# Altium integrated library TI_Logic_Flip-Flop,Latch,Register.IntLib: 2598 symbols (part 93 of 122)
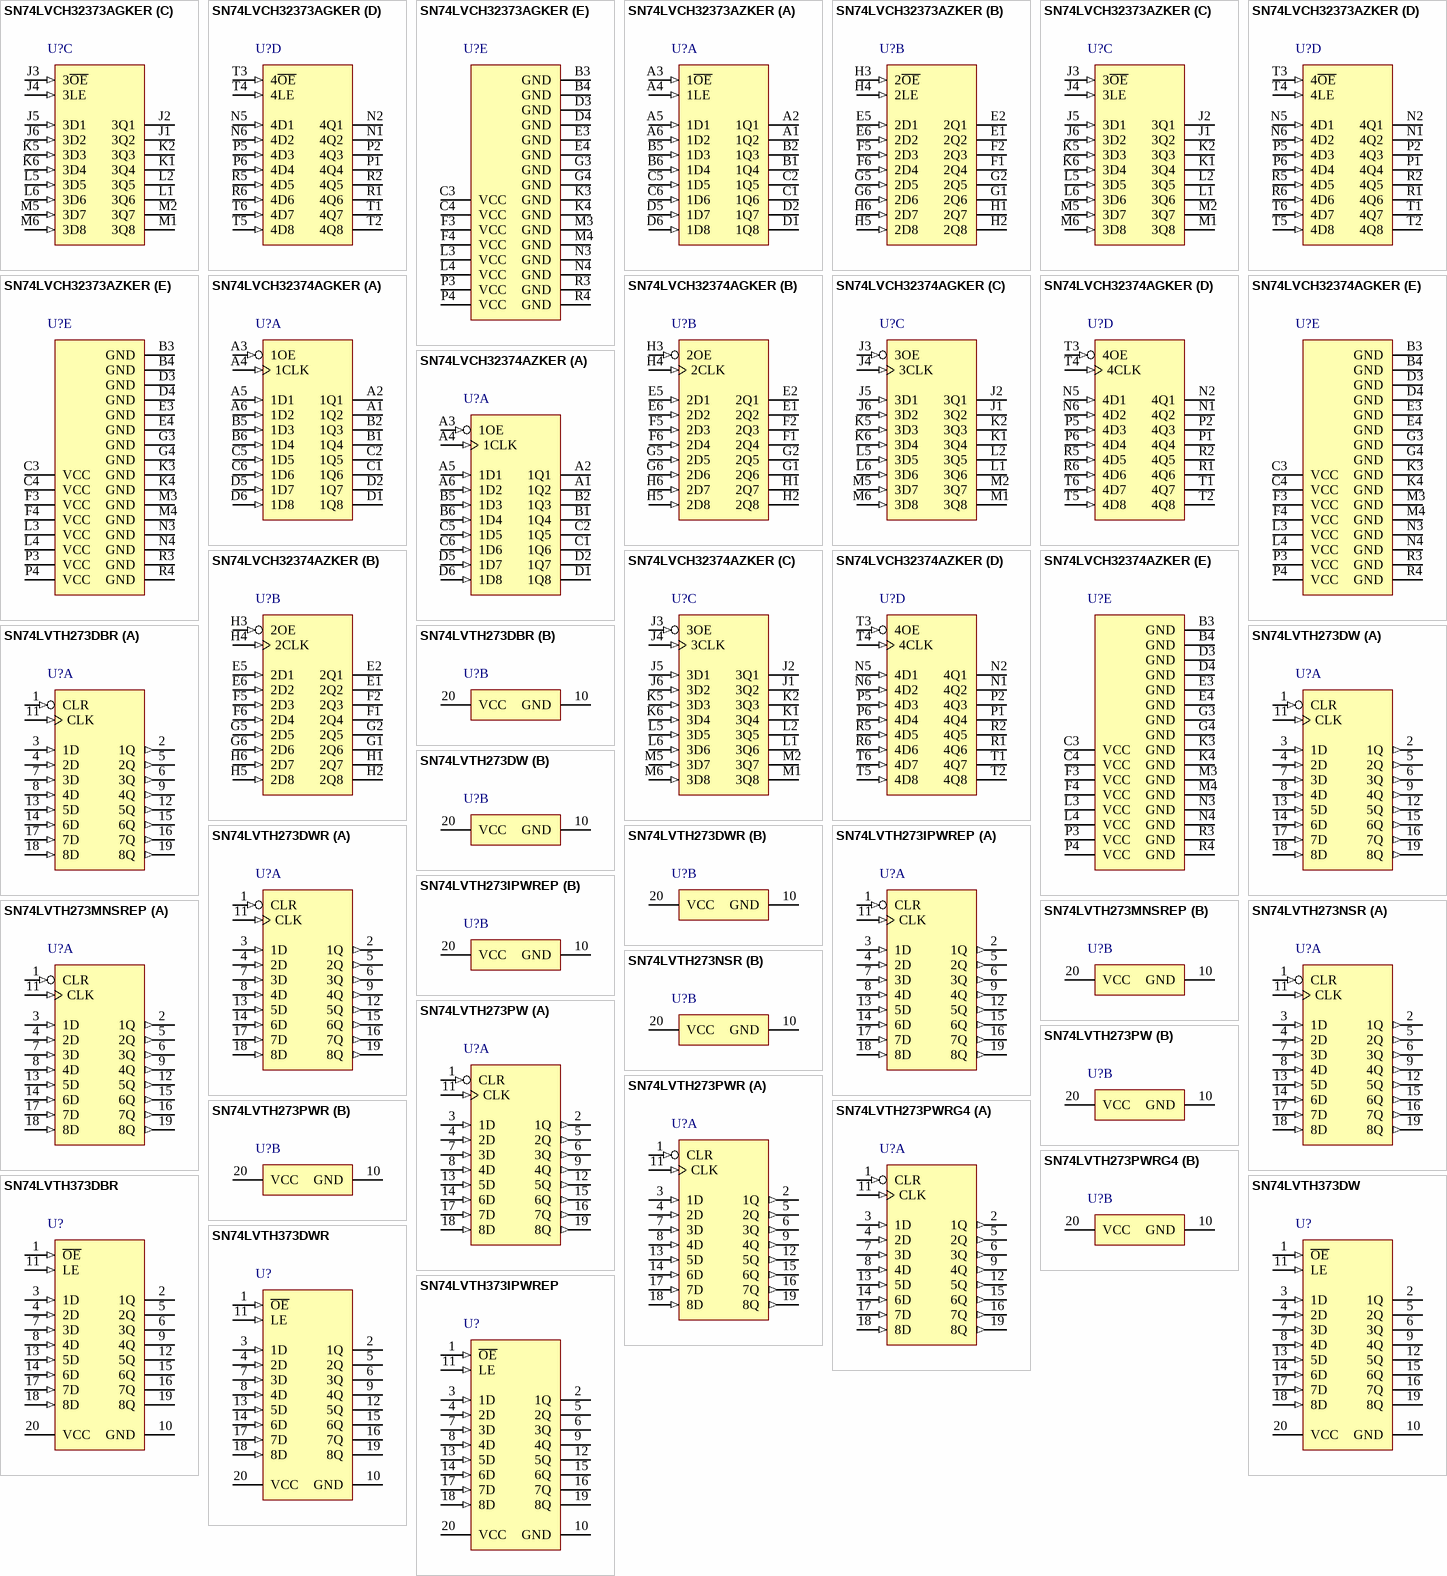
[diagram p231: symbols SN74LVCH32373AGKER to SN74LVTH373IPWREP]

## SN74LVCH32374AZKER
designator U?
32-Bit Edge-Triggered D-Type Flip-Flop With 3-State Outputs, ZKE0096A, LARGE T&R; Generic Part Number: SN74LVCH32374A; Manufacturer: Texas Instruments; PartNumber: SN74LVCH32374AZKER; VCC(Min)(V): 1.65; VCC(Max)(V): 3.6; Output Type: CMOS; ICC @ Nom Voltage(Max)(mA): 0.04; Input Type: TTL,CMOS; Bits(#): 32; F @ Nom Voltage(Max)(Mhz): 100; Rating: Catalog; Technology Family: LVC; Voltage(Nom)(V): 1.8,2.5,2.7,3.3; Schmitt Trigger: No; Output Drive (IOL/IOH)(Max)(mA): 24/-24; Output Logic: Non-inverted; 3-State Output: Yes; tpd @ Nom Voltage(Max)(ns): 4.9,4.5; DatasheetVersion: SCAS619E; PackageReference: ZKE0096A; Supplier 1: Digi-Key; Supplier Part Number 1: SN74LVCH32374AZKER-ND; Supplier 2: Mouser; Supplier Part Number 2: 595-SN74LVCH32374AZK; Operating Temperature Range(C): -40 to 85; Code_JEDEC: MO-205; ComponentLink1Description: Manufacturer URL; ComponentLink1URL: http://www.ti.com/; ComponentLink2Description: Datasheet; ComponentLink2URL: http://www.ti.com/lit/ds/symlink/sn74lvch32374a.pdf; ComponentLink3Description: Package Specification; ComponentLink3URL: http://www.ti.com/lit/ml/mpbg298b/mpbg298b.pdf
footprint ZKE0096A (BGA, 96-Balls, Body 13.5x5.5mm, Pitch 0.8mm)
part A pins: A1 1Q2 (hiz), A2 1Q1 (hiz), A3 1OE (in), A4 1CLK (in), A5 1D1 (in), A6 1D2 (in), B1 1Q4 (hiz), B2 1Q3 (hiz), B5 1D3 (in), B6 1D4 (in), C1 1Q6 (hiz), C2 1Q5 (hiz), C5 1D5 (in), C6 1D6 (in), D1 1Q8 (hiz), D2 1Q7 (hiz), D5 1D7 (in), D6 1D8 (in)
part B pins: E1 2Q2 (hiz), E2 2Q1 (hiz), E5 2D1 (in), E6 2D2 (in), F1 2Q4 (hiz), F2 2Q3 (hiz), F5 2D3 (in), F6 2D4 (in), G1 2Q6 (hiz), G2 2Q5 (hiz), G5 2D5 (in), G6 2D6 (in), H1 2Q7 (hiz), H2 2Q8 (hiz), H3 2OE (in), H4 2CLK (in), H5 2D8 (in), H6 2D7 (in)
part C pins: J1 3Q2 (hiz), J2 3Q1 (hiz), J3 3OE (in), J4 3CLK (in), J5 3D1 (in), J6 3D2 (in), K1 3Q4 (hiz), K2 3Q3 (hiz), K5 3D3 (in), K6 3D4 (in), L1 3Q6 (hiz), L2 3Q5 (hiz), L5 3D5 (in), L6 3D6 (in), M1 3Q8 (hiz), M2 3Q7 (hiz), M5 3D7 (in), M6 3D8 (in)
part D pins: N1 4Q2 (hiz), N2 4Q1 (hiz), N5 4D1 (in), N6 4D2 (in), P1 4Q4 (hiz), P2 4Q3 (hiz), P5 4D3 (in), P6 4D4 (in), R1 4Q6 (hiz), R2 4Q5 (hiz), R5 4D5 (in), R6 4D6 (in), T1 4Q7 (hiz), T2 4Q8 (hiz), T3 4OE (in), T4 4CLK (in), T5 4D8 (in), T6 4D7 (in)
part E pins: B3 GND (power), B4 GND (power), C3 VCC (power), C4 VCC (power), D3 GND (power), D4 GND (power), E3 GND (power), E4 GND (power), F3 VCC (power), F4 VCC (power), G3 GND (power), G4 GND (power), K3 GND (power), K4 GND (power), L3 VCC (power), L4 VCC (power), M3 GND (power), M4 GND (power), N3 GND (power), N4 GND (power), P3 VCC (power), P4 VCC (power), R3 GND (power), R4 GND (power)

## SN74LVTH273DBR
designator U?
3.3-V ABT Octal D-Type Flip-Flops With Clear, DB0020A, LARGE T&R; Generic Part Number: SN74LVTH273; Manufacturer: Texas Instruments; PartNumber: SN74LVTH273DBR; VCC(Min)(V): 2.7; VCC(Max)(V): 3.6; Output Type: TTL; ICC @ Nom Voltage(Max)(mA): 5; Bits(#): 8; F @ Nom Voltage(Max)(Mhz): 160; Rating: Catalog; Technology Family: LVT; Voltage(Nom)(V): 3.3; Schmitt Trigger: No; Output Drive (IOL/IOH)(Max)(mA): 64/-32; Output Logic: Non-inverted; tpd @ Nom Voltage(Max)(ns): 4.9; DatasheetVersion: SCBS136M; PackageReference: DB0020A; Supplier 1: Digi-Key; Supplier Part Number 1: 296-8712-2-ND; Supplier 2: Digi-Key; Supplier Part Number 2: 296-8712-1-ND; Supplier 3: Digi-Key; Supplier Part Number 3: 296-8712-6-ND; Supplier 4: Mouser; Supplier Part Number 4: 595-SN74LVTH273DBR; Input Type: TTL; Operating Temperature Range(C): -40 to 85; 3-State Output: No; Code_JEDEC: MO-150; ComponentLink1Description: Manufacturer URL; ComponentLink1URL: http://www.ti.com/; ComponentLink2Description: Datasheet; ComponentLink2URL: http://www.ti.com/lit/ds/symlink/sn74lvth273.pdf; ComponentLink3Description: Package Specification; ComponentLink3URL: http://www.ti.com/lit/ml/mpds508/mpds508.pdf
footprint DB0020A_N (SOP, 20-Leads, Body 5.6x7.5mm, Pitch 0.65mm, IPC Medium Density)
footprint DB0020A_M (SOP, 20-Leads, Body 5.6x7.5mm, Pitch 0.65mm, IPC Low Density)
footprint DB0020A_L (SOP, 20-Leads, Body 5.6x7.5mm, Pitch 0.65mm, IPC High Density)
part A pins: 1 CLR (in) "Clear Pin", 2 1Q (out) "1Q Output", 3 1D (in) "1D Input", 4 2D (in) "2D Input", 5 2Q (out) "2Q Output", 6 3Q (out) "3Q Output", 7 3D (in) "3D Input", 8 4D (in) "4D Input", 9 4Q (out) "4Q Output", 11 CLK (in) "Clock Pin", 12 5Q (out) "5Q Output", 13 5D (in) "5D Input", 14 6D (in) "6D Input", 15 6Q (out) "6Q Output", 16 7Q (out) "7Q Output", 17 7D (in) "7D Input", 18 8D (in) "8D Input", 19 8Q (out) "8Q Output"
part B pins: 10 GND (power) "Ground Pin", 20 VCC (power) "Power Pin"

## SN74LVTH273DW
designator U?
3.3-V ABT Octal D-Type Flip-Flops With Clear, DW0020A, TUBE; Generic Part Number: SN74LVTH273; Manufacturer: Texas Instruments; PartNumber: SN74LVTH273DW; VCC(Min)(V): 2.7; VCC(Max)(V): 3.6; Output Type: TTL; ICC @ Nom Voltage(Max)(mA): 5; Bits(#): 8; F @ Nom Voltage(Max)(Mhz): 160; Rating: Catalog; Technology Family: LVT; Voltage(Nom)(V): 3.3; Schmitt Trigger: No; Output Drive (IOL/IOH)(Max)(mA): 64/-32; Output Logic: Non-inverted; tpd @ Nom Voltage(Max)(ns): 4.9; DatasheetVersion: SCBS136M; PackageReference: DW0020A; Supplier 1: Digi-Key; Supplier Part Number 1: 296-8713-5-ND; Supplier 2: Farnell; Supplier Part Number 2: 1739895; Supplier 3: Newark; Supplier Part Number 3: 50R6671; Supplier 4: Mouser; Supplier Part Number 4: 595-SN74LVTH273DW; Input Type: TTL; Operating Temperature Range(C): -40 to 85; 3-State Output: No; Code_JEDEC: MS-013; ComponentLink1Description: Manufacturer URL; ComponentLink1URL: http://www.ti.com/; ComponentLink2Description: Datasheet; ComponentLink2URL: http://www.ti.com/lit/ds/symlink/sn74lvth273.pdf; ComponentLink3Description: Package Specification; ComponentLink3URL: http://www.ti.com/lit/ml/mpds173a/mpds173a.pdf
footprint DW0020A_N (SOIC, 20-Leads, Body 13x7.6mm, Pitch 1.27mm, IPC Medium Density)
footprint DW0020A_M (SOIC, 20-Leads, Body 13x7.6mm, Pitch 1.27mm, IPC Low Density)
footprint DW0020A_L (SOIC, 20-Leads, Body 13x7.6mm, Pitch 1.27mm, IPC High Density)
part A pins: 1 CLR (in) "Clear Pin", 2 1Q (out) "1Q Output", 3 1D (in) "1D Input", 4 2D (in) "2D Input", 5 2Q (out) "2Q Output", 6 3Q (out) "3Q Output", 7 3D (in) "3D Input", 8 4D (in) "4D Input", 9 4Q (out) "4Q Output", 11 CLK (in) "Clock Pin", 12 5Q (out) "5Q Output", 13 5D (in) "5D Input", 14 6D (in) "6D Input", 15 6Q (out) "6Q Output", 16 7Q (out) "7Q Output", 17 7D (in) "7D Input", 18 8D (in) "8D Input", 19 8Q (out) "8Q Output"
part B pins: 10 GND (power) "Ground Pin", 20 VCC (power) "Power Pin"

## SN74LVTH273DWR
designator U?
3.3-V ABT Octal D-Type Flip-Flops With Clear, DW0020A, LARGE T&R; Generic Part Number: SN74LVTH273; Manufacturer: Texas Instruments; PartNumber: SN74LVTH273DWR; VCC(Min)(V): 2.7; VCC(Max)(V): 3.6; Output Type: TTL; ICC @ Nom Voltage(Max)(mA): 5; Bits(#): 8; F @ Nom Voltage(Max)(Mhz): 160; Rating: Catalog; Technology Family: LVT; Voltage(Nom)(V): 3.3; Schmitt Trigger: No; Output Drive (IOL/IOH)(Max)(mA): 64/-32; Output Logic: Non-inverted; tpd @ Nom Voltage(Max)(ns): 4.9; DatasheetVersion: SCBS136M; PackageReference: DW0020A; Supplier 1: Digi-Key; Supplier Part Number 1: 296-14934-2-ND; Supplier 2: Digi-Key; Supplier Part Number 2: 296-14934-1-ND; Supplier 3: Digi-Key; Supplier Part Number 3: 296-14934-6-ND; Supplier 4: Newark; Supplier Part Number 4: 76C4480; Supplier 5: Mouser; Supplier Part Number 5: 595-SN74LVTH273DWR; Input Type: TTL; Operating Temperature Range(C): -40 to 85; 3-State Output: No; Code_JEDEC: MS-013; ComponentLink1Description: Manufacturer URL; ComponentLink1URL: http://www.ti.com/; ComponentLink2Description: Datasheet; ComponentLink2URL: http://www.ti.com/lit/ds/symlink/sn74lvth273.pdf; ComponentLink3Description: Package Specification; ComponentLink3URL: http://www.ti.com/lit/ml/mpds173a/mpds173a.pdf
footprint DW0020A_N (SOIC, 20-Leads, Body 13x7.6mm, Pitch 1.27mm, IPC Medium Density)
footprint DW0020A_M (SOIC, 20-Leads, Body 13x7.6mm, Pitch 1.27mm, IPC Low Density)
footprint DW0020A_L (SOIC, 20-Leads, Body 13x7.6mm, Pitch 1.27mm, IPC High Density)
part A pins: 1 CLR (in) "Clear Pin", 2 1Q (out) "1Q Output", 3 1D (in) "1D Input", 4 2D (in) "2D Input", 5 2Q (out) "2Q Output", 6 3Q (out) "3Q Output", 7 3D (in) "3D Input", 8 4D (in) "4D Input", 9 4Q (out) "4Q Output", 11 CLK (in) "Clock Pin", 12 5Q (out) "5Q Output", 13 5D (in) "5D Input", 14 6D (in) "6D Input", 15 6Q (out) "6Q Output", 16 7Q (out) "7Q Output", 17 7D (in) "7D Input", 18 8D (in) "8D Input", 19 8Q (out) "8Q Output"
part B pins: 10 GND (power) "Ground Pin", 20 VCC (power) "Power Pin"

## SN74LVTH273IPWREP
designator U?
Enhanced Product 3.3-V Abt Octal D-Type Flip-Flops With Clear, PW0020A, LARGE T&R; Generic Part Number: SN74LVTH273-EP; Manufacturer: Texas Instruments; PartNumber: SN74LVTH273IPWREP; VCC(Min)(V): 2.7; VCC(Max)(V): 3.6; Output Type: TTL; ICC @ Nom Voltage(Max)(mA): 5; Bits(#): 8; F @ Nom Voltage(Max)(Mhz): 160; Rating: HiRel Enhanced Product; Technology Family: LVT; Voltage(Nom)(V): 3.3; Schmitt Trigger: No; Output Drive (IOL/IOH)(Max)(mA): 64/-32; Output Logic: Non-inverted; tpd @ Nom Voltage(Max)(ns): 4.9; DatasheetVersion: SCBS769A; PackageReference: PW0020A; Supplier 1: Digi-Key; Supplier Part Number 1: 296-22392-2-ND; Supplier 2: Digi-Key; Supplier Part Number 2: 296-22392-1-ND; Supplier 3: Digi-Key; Supplier Part Number 3: 296-22392-6-ND; Supplier 4: Mouser; Supplier Part Number 4: 595-N74LVTH273IPWREP; Input Type: TTL; Operating Temperature Range(C): -40 to 85,-55 to 125; 3-State Output: No; Code_JEDEC: MO-153; ComponentLink1Description: Manufacturer URL; ComponentLink1URL: http://www.ti.com/; ComponentLink2Description: Datasheet; ComponentLink2URL: http://www.ti.com/lit/ds/symlink/sn74lvth273-ep.pdf; ComponentLink3Description: Package Specification; ComponentLink3URL: http://www.ti.com/lit/ml/mpds362/mpds362.pdf
footprint PW0020A_N (SOP, 20-Leads, Body 6.6x4.5mm, Pitch 0.65mm, IPC Medium Density)
footprint PW0020A_M (SOP, 20-Leads, Body 6.6x4.5mm, Pitch 0.65mm, IPC Low Density)
footprint PW0020A_L (SOP, 20-Leads, Body 6.6x4.5mm, Pitch 0.65mm, IPC High Density)
part A pins: 1 CLR (in) "Clear Pin", 2 1Q (out) "1Q Output", 3 1D (in) "1D Input", 4 2D (in) "2D Input", 5 2Q (out) "2Q Output", 6 3Q (out) "3Q Output", 7 3D (in) "3D Input", 8 4D (in) "4D Input", 9 4Q (out) "4Q Output", 11 CLK (in) "Clock Pin", 12 5Q (out) "5Q Output", 13 5D (in) "5D Input", 14 6D (in) "6D Input", 15 6Q (out) "6Q Output", 16 7Q (out) "7Q Output", 17 7D (in) "7D Input", 18 8D (in) "8D Input", 19 8Q (out) "8Q Output"
part B pins: 10 GND (power) "Ground Pin", 20 VCC (power) "Power Pin"

## SN74LVTH273MNSREP
designator U?
Enhanced Product 3.3-V Abt Octal D-Type Flip-Flops With Clear, NS0020A, LARGE T&R; Generic Part Number: SN74LVTH273-EP; Manufacturer: Texas Instruments; PartNumber: SN74LVTH273MNSREP; VCC(Min)(V): 2.7; VCC(Max)(V): 3.6; Output Type: TTL; ICC @ Nom Voltage(Max)(mA): 5; Bits(#): 8; F @ Nom Voltage(Max)(Mhz): 160; Rating: HiRel Enhanced Product; Technology Family: LVT; Voltage(Nom)(V): 3.3; Schmitt Trigger: No; Output Drive (IOL/IOH)(Max)(mA): 64/-32; Output Logic: Non-inverted; tpd @ Nom Voltage(Max)(ns): 4.9; DatasheetVersion: SCBS769A; PackageReference: NS0020A; Supplier 1: Digi-Key; Supplier Part Number 1: 296-22393-2-ND; Supplier 2: Digi-Key; Supplier Part Number 2: 296-22393-1-ND; Supplier 3: Digi-Key; Supplier Part Number 3: 296-22393-6-ND; Supplier 4: Mouser; Supplier Part Number 4: 595-N74LVTH273MNSREP; Input Type: TTL; Operating Temperature Range(C): -40 to 85,-55 to 125; 3-State Output: No; ComponentLink1Description: Manufacturer URL; ComponentLink1URL: http://www.ti.com/; ComponentLink2Description: Datasheet; ComponentLink2URL: http://www.ti.com/lit/ds/symlink/sn74lvth273-ep.pdf; ComponentLink3Description: Package Specification; ComponentLink3URL: http://www.ti.com/lit/ml/msop002a/msop002a.pdf
footprint NS0020A_N (SOIC,20-Leads,Body 12.9x5.6mm,Pitch 1.27mm,IPC Medium Density)
footprint NS0020A_M (SOIC,20-Leads,Body 12.9x5.6mm,Pitch 1.27mm,IPC Low Density)
footprint NS0020A_L (SOIC,20-Leads,Body 12.9x5.6mm,Pitch 1.27mm,IPC High Density)
part A pins: 1 CLR (in) "Clear Pin", 2 1Q (out) "1Q Output", 3 1D (in) "1D Input", 4 2D (in) "2D Input", 5 2Q (out) "2Q Output", 6 3Q (out) "3Q Output", 7 3D (in) "3D Input", 8 4D (in) "4D Input", 9 4Q (out) "4Q Output", 11 CLK (in) "Clock Pin", 12 5Q (out) "5Q Output", 13 5D (in) "5D Input", 14 6D (in) "6D Input", 15 6Q (out) "6Q Output", 16 7Q (out) "7Q Output", 17 7D (in) "7D Input", 18 8D (in) "8D Input", 19 8Q (out) "8Q Output"
part B pins: 10 GND (power) "Ground Pin", 20 VCC (power) "Power Pin"

## SN74LVTH273NSR
designator U?
3.3-V ABT Octal D-Type Flip-Flops With Clear, NS0020A, LARGE T&R; Generic Part Number: SN74LVTH273; Manufacturer: Texas Instruments; PartNumber: SN74LVTH273NSR; VCC(Min)(V): 2.7; VCC(Max)(V): 3.6; Output Type: TTL; ICC @ Nom Voltage(Max)(mA): 5; Bits(#): 8; F @ Nom Voltage(Max)(Mhz): 160; Rating: Catalog; Technology Family: LVT; Voltage(Nom)(V): 3.3; Schmitt Trigger: No; Output Drive (IOL/IOH)(Max)(mA): 64/-32; Output Logic: Non-inverted; tpd @ Nom Voltage(Max)(ns): 4.9; DatasheetVersion: SCBS136M; PackageReference: NS0020A; Supplier 1: Digi-Key; Supplier Part Number 1: 296-28730-2-ND; Supplier 2: Digi-Key; Supplier Part Number 2: 296-28730-1-ND; Supplier 3: Digi-Key; Supplier Part Number 3: 296-28730-6-ND; Supplier 4: Farnell; Supplier Part Number 4: 1236459; Supplier 5: Mouser; Supplier Part Number 5: 595-SN74LVTH273NSR; Input Type: TTL; Operating Temperature Range(C): -40 to 85; 3-State Output: No; ComponentLink1Description: Manufacturer URL; ComponentLink1URL: http://www.ti.com/; ComponentLink2Description: Datasheet; ComponentLink2URL: http://www.ti.com/lit/ds/symlink/sn74lvth273.pdf; ComponentLink3Description: Package Specification; ComponentLink3URL: http://www.ti.com/lit/ml/msop002a/msop002a.pdf
footprint NS0020A_N (SOIC,20-Leads,Body 12.9x5.6mm,Pitch 1.27mm,IPC Medium Density)
footprint NS0020A_M (SOIC,20-Leads,Body 12.9x5.6mm,Pitch 1.27mm,IPC Low Density)
footprint NS0020A_L (SOIC,20-Leads,Body 12.9x5.6mm,Pitch 1.27mm,IPC High Density)
part A pins: 1 CLR (in) "Clear Pin", 2 1Q (out) "1Q Output", 3 1D (in) "1D Input", 4 2D (in) "2D Input", 5 2Q (out) "2Q Output", 6 3Q (out) "3Q Output", 7 3D (in) "3D Input", 8 4D (in) "4D Input", 9 4Q (out) "4Q Output", 11 CLK (in) "Clock Pin", 12 5Q (out) "5Q Output", 13 5D (in) "5D Input", 14 6D (in) "6D Input", 15 6Q (out) "6Q Output", 16 7Q (out) "7Q Output", 17 7D (in) "7D Input", 18 8D (in) "8D Input", 19 8Q (out) "8Q Output"
part B pins: 10 GND (power) "Ground Pin", 20 VCC (power) "Power Pin"

## SN74LVTH273PW
designator U?
3.3-V ABT Octal D-Type Flip-Flops With Clear, PW0020A, TUBE; Generic Part Number: SN74LVTH273; Manufacturer: Texas Instruments; PartNumber: SN74LVTH273PW; VCC(Min)(V): 2.7; VCC(Max)(V): 3.6; Output Type: TTL; ICC @ Nom Voltage(Max)(mA): 5; Bits(#): 8; F @ Nom Voltage(Max)(Mhz): 160; Rating: Catalog; Technology Family: LVT; Voltage(Nom)(V): 3.3; Schmitt Trigger: No; Output Drive (IOL/IOH)(Max)(mA): 64/-32; Output Logic: Non-inverted; tpd @ Nom Voltage(Max)(ns): 4.9; DatasheetVersion: SCBS136M; PackageReference: PW0020A; Supplier 1: Digi-Key; Supplier Part Number 1: 296-34093-5-ND; Supplier 2: Farnell; Supplier Part Number 2: 1741131; Supplier 3: Newark; Supplier Part Number 3: 32H6441; Supplier 4: Mouser; Supplier Part Number 4: 595-SN74LVTH273PW; Input Type: TTL; Operating Temperature Range(C): -40 to 85; 3-State Output: No; Code_JEDEC: MO-153; ComponentLink1Description: Manufacturer URL; ComponentLink1URL: http://www.ti.com/; ComponentLink2Description: Datasheet; ComponentLink2URL: http://www.ti.com/lit/ds/symlink/sn74lvth273.pdf; ComponentLink3Description: Package Specification; ComponentLink3URL: http://www.ti.com/lit/ml/mpds362/mpds362.pdf
footprint PW0020A_N (SOP, 20-Leads, Body 6.6x4.5mm, Pitch 0.65mm, IPC Medium Density)
footprint PW0020A_M (SOP, 20-Leads, Body 6.6x4.5mm, Pitch 0.65mm, IPC Low Density)
footprint PW0020A_L (SOP, 20-Leads, Body 6.6x4.5mm, Pitch 0.65mm, IPC High Density)
part A pins: 1 CLR (in) "Clear Pin", 2 1Q (out) "1Q Output", 3 1D (in) "1D Input", 4 2D (in) "2D Input", 5 2Q (out) "2Q Output", 6 3Q (out) "3Q Output", 7 3D (in) "3D Input", 8 4D (in) "4D Input", 9 4Q (out) "4Q Output", 11 CLK (in) "Clock Pin", 12 5Q (out) "5Q Output", 13 5D (in) "5D Input", 14 6D (in) "6D Input", 15 6Q (out) "6Q Output", 16 7Q (out) "7Q Output", 17 7D (in) "7D Input", 18 8D (in) "8D Input", 19 8Q (out) "8Q Output"
part B pins: 10 GND (power) "Ground Pin", 20 VCC (power) "Power Pin"

## SN74LVTH273PWR
designator U?
3.3-V ABT Octal D-Type Flip-Flops With Clear, PW0020A, LARGE T&R; Generic Part Number: SN74LVTH273; Manufacturer: Texas Instruments; PartNumber: SN74LVTH273PWR; VCC(Min)(V): 2.7; VCC(Max)(V): 3.6; Output Type: TTL; ICC @ Nom Voltage(Max)(mA): 5; Bits(#): 8; F @ Nom Voltage(Max)(Mhz): 160; Rating: Catalog; Technology Family: LVT; Voltage(Nom)(V): 3.3; Schmitt Trigger: No; Output Drive (IOL/IOH)(Max)(mA): 64/-32; Output Logic: Non-inverted; tpd @ Nom Voltage(Max)(ns): 4.9; DatasheetVersion: SCBS136M; PackageReference: PW0020A; Supplier 1: Digi-Key; Supplier Part Number 1: 296-1273-2-ND; Supplier 2: Digi-Key; Supplier Part Number 2: 296-1273-1-ND; Supplier 3: Digi-Key; Supplier Part Number 3: 296-1273-6-ND; Supplier 4: Newark; Supplier Part Number 4: 35C2074; Supplier 5: Mouser; Supplier Part Number 5: 595-SN74LVTH273PWR; Input Type: TTL; Operating Temperature Range(C): -40 to 85; 3-State Output: No; Code_JEDEC: MO-153; ComponentLink1Description: Manufacturer URL; ComponentLink1URL: http://www.ti.com/; ComponentLink2Description: Datasheet; ComponentLink2URL: http://www.ti.com/lit/ds/symlink/sn74lvth273.pdf; ComponentLink3Description: Package Specification; ComponentLink3URL: http://www.ti.com/lit/ml/mpds362/mpds362.pdf
footprint PW0020A_N (SOP, 20-Leads, Body 6.6x4.5mm, Pitch 0.65mm, IPC Medium Density)
footprint PW0020A_M (SOP, 20-Leads, Body 6.6x4.5mm, Pitch 0.65mm, IPC Low Density)
footprint PW0020A_L (SOP, 20-Leads, Body 6.6x4.5mm, Pitch 0.65mm, IPC High Density)
part A pins: 1 CLR (in) "Clear Pin", 2 1Q (out) "1Q Output", 3 1D (in) "1D Input", 4 2D (in) "2D Input", 5 2Q (out) "2Q Output", 6 3Q (out) "3Q Output", 7 3D (in) "3D Input", 8 4D (in) "4D Input", 9 4Q (out) "4Q Output", 11 CLK (in) "Clock Pin", 12 5Q (out) "5Q Output", 13 5D (in) "5D Input", 14 6D (in) "6D Input", 15 6Q (out) "6Q Output", 16 7Q (out) "7Q Output", 17 7D (in) "7D Input", 18 8D (in) "8D Input", 19 8Q (out) "8Q Output"
part B pins: 10 GND (power) "Ground Pin", 20 VCC (power) "Power Pin"

## SN74LVTH273PWRG4
designator U?
3.3-V ABT Octal D-Type Flip-Flops With Clear, PW0020A, LARGE T&R; Generic Part Number: SN74LVTH273; Manufacturer: Texas Instruments; PartNumber: SN74LVTH273PWRG4; VCC(Min)(V): 2.7; VCC(Max)(V): 3.6; Output Type: TTL; ICC @ Nom Voltage(Max)(mA): 5; Bits(#): 8; F @ Nom Voltage(Max)(Mhz): 160; Rating: Catalog; Technology Family: LVT; Voltage(Nom)(V): 3.3; Schmitt Trigger: No; Output Drive (IOL/IOH)(Max)(mA): 64/-32; Output Logic: Non-inverted; tpd @ Nom Voltage(Max)(ns): 4.9; DatasheetVersion: SCBS136M; PackageReference: PW0020A; Supplier 1: Digi-Key; Supplier Part Number 1: SN74LVTH273PWRG4-ND; Supplier 2: Mouser; Supplier Part Number 2: 595-SN74LVTH273PWRG4; Input Type: TTL; Operating Temperature Range(C): -40 to 85; 3-State Output: No; Code_JEDEC: MO-153; ComponentLink1Description: Manufacturer URL; ComponentLink1URL: http://www.ti.com/; ComponentLink2Description: Datasheet; ComponentLink2URL: http://www.ti.com/lit/ds/symlink/sn74lvth273.pdf; ComponentLink3Description: Package Specification; ComponentLink3URL: http://www.ti.com/lit/ml/mpds362/mpds362.pdf
footprint PW0020A_N (SOP, 20-Leads, Body 6.6x4.5mm, Pitch 0.65mm, IPC Medium Density)
footprint PW0020A_M (SOP, 20-Leads, Body 6.6x4.5mm, Pitch 0.65mm, IPC Low Density)
footprint PW0020A_L (SOP, 20-Leads, Body 6.6x4.5mm, Pitch 0.65mm, IPC High Density)
part A pins: 1 CLR (in) "Clear Pin", 2 1Q (out) "1Q Output", 3 1D (in) "1D Input", 4 2D (in) "2D Input", 5 2Q (out) "2Q Output", 6 3Q (out) "3Q Output", 7 3D (in) "3D Input", 8 4D (in) "4D Input", 9 4Q (out) "4Q Output", 11 CLK (in) "Clock Pin", 12 5Q (out) "5Q Output", 13 5D (in) "5D Input", 14 6D (in) "6D Input", 15 6Q (out) "6Q Output", 16 7Q (out) "7Q Output", 17 7D (in) "7D Input", 18 8D (in) "8D Input", 19 8Q (out) "8Q Output"
part B pins: 10 GND (power) "Ground Pin", 20 VCC (power) "Power Pin"

## SN74LVTH373DBR
designator U?
3.3-V ABT Octal Transparent D-Type Latches With 3-State Outputs, DB0020A, LARGE T&R; Generic Part Number: SN74LVTH373; Manufacturer: Texas Instruments; PartNumber: SN74LVTH373DBR; VCC(Min)(V): 2.7; VCC(Max)(V): 3.6; Output Type: TTL; Logic: True; Static Current: 5; Bits(#): 8; F @ Nom Voltage(Max)(Mhz): 160; Rating: Catalog; Technology Family: LVT; Voltage(Nom)(V): 3.3; Schmitt Trigger: No; Output Drive (IOL/IOH)(Max)(mA): 64/-32; Output Logic: Non-inverted; 3-State Output: Yes; tpd @ Nom Voltage(Max)(ns): 3.9; DatasheetVersion: SCBS689H; PackageReference: DB0020A; Supplier 1: Digi-Key; Supplier Part Number 1: 296-8718-2-ND; Supplier 2: Digi-Key; Supplier Part Number 2: 296-8718-1-ND; Supplier 3: Digi-Key; Supplier Part Number 3: 296-8718-6-ND; Supplier 4: Mouser; Supplier Part Number 4: 595-SN74LVTH373DBR; ICC @ Nom Voltage(Max)(mA): 5; Input Type: TTL; Operating Temperature Range(C): -40 to 85; Code_JEDEC: MO-150; ComponentLink1Description: Manufacturer URL; ComponentLink1URL: http://www.ti.com/; ComponentLink2Description: Datasheet; ComponentLink2URL: http://www.ti.com/lit/ds/symlink/sn74lvth373.pdf; ComponentLink3Description: Package Specification; ComponentLink3URL: http://www.ti.com/lit/ml/mpds508/mpds508.pdf
footprint DB0020A_N (SOP, 20-Leads, Body 5.6x7.5mm, Pitch 0.65mm, IPC Medium Density)
footprint DB0020A_M (SOP, 20-Leads, Body 5.6x7.5mm, Pitch 0.65mm, IPC Low Density)
footprint DB0020A_L (SOP, 20-Leads, Body 5.6x7.5mm, Pitch 0.65mm, IPC High Density)
pins: 1 ~{OE} (in) "Output Enable", 2 1Q (hiz) "1Q Output", 3 1D (in) "1D Input", 4 2D (in) "2D Input", 5 2Q (hiz) "2Q Output", 6 3Q (hiz) "3Q Output", 7 3D (in) "3D Input", 8 4D (in) "4D Input", 9 4Q (hiz) "4Q Output", 10 GND (power) "Ground Pin", 11 LE (in) "Latch Enable", 12 5Q (hiz) "5Q Output", 13 5D (in) "5D Input", 14 6D (in) "6D Input", 15 6Q (hiz) "6Q Output", 16 7Q (hiz) "7Q Output", 17 7D (in) "7D Input", 18 8D (in) "8D Input", 19 8Q (hiz) "8Q Output", 20 VCC (power) "Power Pin"

## SN74LVTH373DW
designator U?
3.3-V ABT Octal Transparent D-Type Latches With 3-State Outputs, DW0020A, TUBE; Generic Part Number: SN74LVTH373; Manufacturer: Texas Instruments; PartNumber: SN74LVTH373DW; VCC(Min)(V): 2.7; VCC(Max)(V): 3.6; Output Type: TTL; Logic: True; Static Current: 5; Bits(#): 8; F @ Nom Voltage(Max)(Mhz): 160; Rating: Catalog; Technology Family: LVT; Voltage(Nom)(V): 3.3; Schmitt Trigger: No; Output Drive (IOL/IOH)(Max)(mA): 64/-32; Output Logic: Non-inverted; 3-State Output: Yes; tpd @ Nom Voltage(Max)(ns): 3.9; DatasheetVersion: SCBS689H; PackageReference: DW0020A; Supplier 1: Digi-Key; Supplier Part Number 1: 296-8719-5-ND; Supplier 2: Newark; Supplier Part Number 2: 76C4494; Supplier 3: Mouser; Supplier Part Number 3: 595-SN74LVTH373DW; ICC @ Nom Voltage(Max)(mA): 5; Input Type: TTL; Operating Temperature Range(C): -40 to 85; Code_JEDEC: MS-013; ComponentLink1Description: Manufacturer URL; ComponentLink1URL: http://www.ti.com/; ComponentLink2Description: Datasheet; ComponentLink2URL: http://www.ti.com/lit/ds/symlink/sn74lvth373.pdf; ComponentLink3Description: Package Specification; ComponentLink3URL: http://www.ti.com/lit/ml/mpds173a/mpds173a.pdf
footprint DW0020A_N (SOIC, 20-Leads, Body 13x7.6mm, Pitch 1.27mm, IPC Medium Density)
footprint DW0020A_M (SOIC, 20-Leads, Body 13x7.6mm, Pitch 1.27mm, IPC Low Density)
footprint DW0020A_L (SOIC, 20-Leads, Body 13x7.6mm, Pitch 1.27mm, IPC High Density)
pins: 1 ~{OE} (in) "Output Enable", 2 1Q (hiz) "1Q Output", 3 1D (in) "1D Input", 4 2D (in) "2D Input", 5 2Q (hiz) "2Q Output", 6 3Q (hiz) "3Q Output", 7 3D (in) "3D Input", 8 4D (in) "4D Input", 9 4Q (hiz) "4Q Output", 10 GND (power) "Ground Pin", 11 LE (in) "Latch Enable", 12 5Q (hiz) "5Q Output", 13 5D (in) "5D Input", 14 6D (in) "6D Input", 15 6Q (hiz) "6Q Output", 16 7Q (hiz) "7Q Output", 17 7D (in) "7D Input", 18 8D (in) "8D Input", 19 8Q (hiz) "8Q Output", 20 VCC (power) "Power Pin"

## SN74LVTH373DWR
designator U?
3.3-V ABT Octal Transparent D-Type Latches With 3-State Outputs, DW0020A, LARGE T&R; Generic Part Number: SN74LVTH373; Manufacturer: Texas Instruments; PartNumber: SN74LVTH373DWR; VCC(Min)(V): 2.7; VCC(Max)(V): 3.6; Output Type: TTL; Logic: True; Static Current: 5; Bits(#): 8; F @ Nom Voltage(Max)(Mhz): 160; Rating: Catalog; Technology Family: LVT; Voltage(Nom)(V): 3.3; Schmitt Trigger: No; Output Drive (IOL/IOH)(Max)(mA): 64/-32; Output Logic: Non-inverted; 3-State Output: Yes; tpd @ Nom Voltage(Max)(ns): 3.9; DatasheetVersion: SCBS689H; PackageReference: DW0020A; Supplier 1: Digi-Key; Supplier Part Number 1: 296-29010-2-ND; Supplier 2: Digi-Key; Supplier Part Number 2: 296-29010-1-ND; Supplier 3: Digi-Key; Supplier Part Number 3: 296-29010-6-ND; Supplier 4: Mouser; Supplier Part Number 4: 595-SN74LVTH373DWR; ICC @ Nom Voltage(Max)(mA): 5; Input Type: TTL; Operating Temperature Range(C): -40 to 85; Code_JEDEC: MS-013; ComponentLink1Description: Manufacturer URL; ComponentLink1URL: http://www.ti.com/; ComponentLink2Description: Datasheet; ComponentLink2URL: http://www.ti.com/lit/ds/symlink/sn74lvth373.pdf; ComponentLink3Description: Package Specification; ComponentLink3URL: http://www.ti.com/lit/ml/mpds173a/mpds173a.pdf
footprint DW0020A_N (SOIC, 20-Leads, Body 13x7.6mm, Pitch 1.27mm, IPC Medium Density)
footprint DW0020A_M (SOIC, 20-Leads, Body 13x7.6mm, Pitch 1.27mm, IPC Low Density)
footprint DW0020A_L (SOIC, 20-Leads, Body 13x7.6mm, Pitch 1.27mm, IPC High Density)
pins: 1 ~{OE} (in) "Output Enable", 2 1Q (hiz) "1Q Output", 3 1D (in) "1D Input", 4 2D (in) "2D Input", 5 2Q (hiz) "2Q Output", 6 3Q (hiz) "3Q Output", 7 3D (in) "3D Input", 8 4D (in) "4D Input", 9 4Q (hiz) "4Q Output", 10 GND (power) "Ground Pin", 11 LE (in) "Latch Enable", 12 5Q (hiz) "5Q Output", 13 5D (in) "5D Input", 14 6D (in) "6D Input", 15 6Q (hiz) "6Q Output", 16 7Q (hiz) "7Q Output", 17 7D (in) "7D Input", 18 8D (in) "8D Input", 19 8Q (hiz) "8Q Output", 20 VCC (power) "Power Pin"

## SN74LVTH373IPWREP
designator U?
Enhanced Product 3.3-V Abt Octal Transparent D-Type Latches With 3-State Outputs, PW0020A, LARGE T&R; Generic Part Number: SN74LVTH373-EP; Manufacturer: Texas Instruments; PartNumber: SN74LVTH373IPWREP; VCC(Min)(V): 2.7; VCC(Max)(V): 3.6; Output Type: TTL; Logic: True; Static Current: 5; Bits(#): 8; F @ Nom Voltage(Max)(Mhz): 160; Rating: HiRel Enhanced Product; Technology Family: LVT; Voltage(Nom)(V): 3.3; Schmitt Trigger: No; Output Drive (IOL/IOH)(Max)(mA): 64/-32; Output Logic: Non-inverted; 3-State Output: Yes; tpd @ Nom Voltage(Max)(ns): 3.9; DatasheetVersion: SCBS770; PackageReference: PW0020A; Supplier 1: Digi-Key; Supplier Part Number 1: 296-22394-2-ND; Supplier 2: Digi-Key; Supplier Part Number 2: 296-22394-1-ND; Supplier 3: Digi-Key; Supplier Part Number 3: 296-22394-6-ND; Supplier 4: Mouser; Supplier Part Number 4: 595-N74LVTH373IPWREP; ICC @ Nom Voltage(Max)(mA): 5; Input Type: TTL; Operating Temperature Range(C): -40 to 85; Code_JEDEC: MO-153; ComponentLink1Description: Manufacturer URL; ComponentLink1URL: http://www.ti.com/; ComponentLink2Description: Datasheet; ComponentLink2URL: http://www.ti.com/lit/ds/symlink/sn74lvth373-ep.pdf; ComponentLink3Description: Package Specification; ComponentLink3URL: http://www.ti.com/lit/ml/mpds362/mpds362.pdf
footprint PW0020A_N (SOP, 20-Leads, Body 6.6x4.5mm, Pitch 0.65mm, IPC Medium Density)
footprint PW0020A_M (SOP, 20-Leads, Body 6.6x4.5mm, Pitch 0.65mm, IPC Low Density)
footprint PW0020A_L (SOP, 20-Leads, Body 6.6x4.5mm, Pitch 0.65mm, IPC High Density)
pins: 1 ~{OE} (in) "Output Enable", 2 1Q (hiz) "1Q Output", 3 1D (in) "1D Input", 4 2D (in) "2D Input", 5 2Q (hiz) "2Q Output", 6 3Q (hiz) "3Q Output", 7 3D (in) "3D Input", 8 4D (in) "4D Input", 9 4Q (hiz) "4Q Output", 10 GND (power) "Ground Pin", 11 LE (in) "Latch Enable", 12 5Q (hiz) "5Q Output", 13 5D (in) "5D Input", 14 6D (in) "6D Input", 15 6Q (hiz) "6Q Output", 16 7Q (hiz) "7Q Output", 17 7D (in) "7D Input", 18 8D (in) "8D Input", 19 8Q (hiz) "8Q Output", 20 VCC (power) "Power Pin"

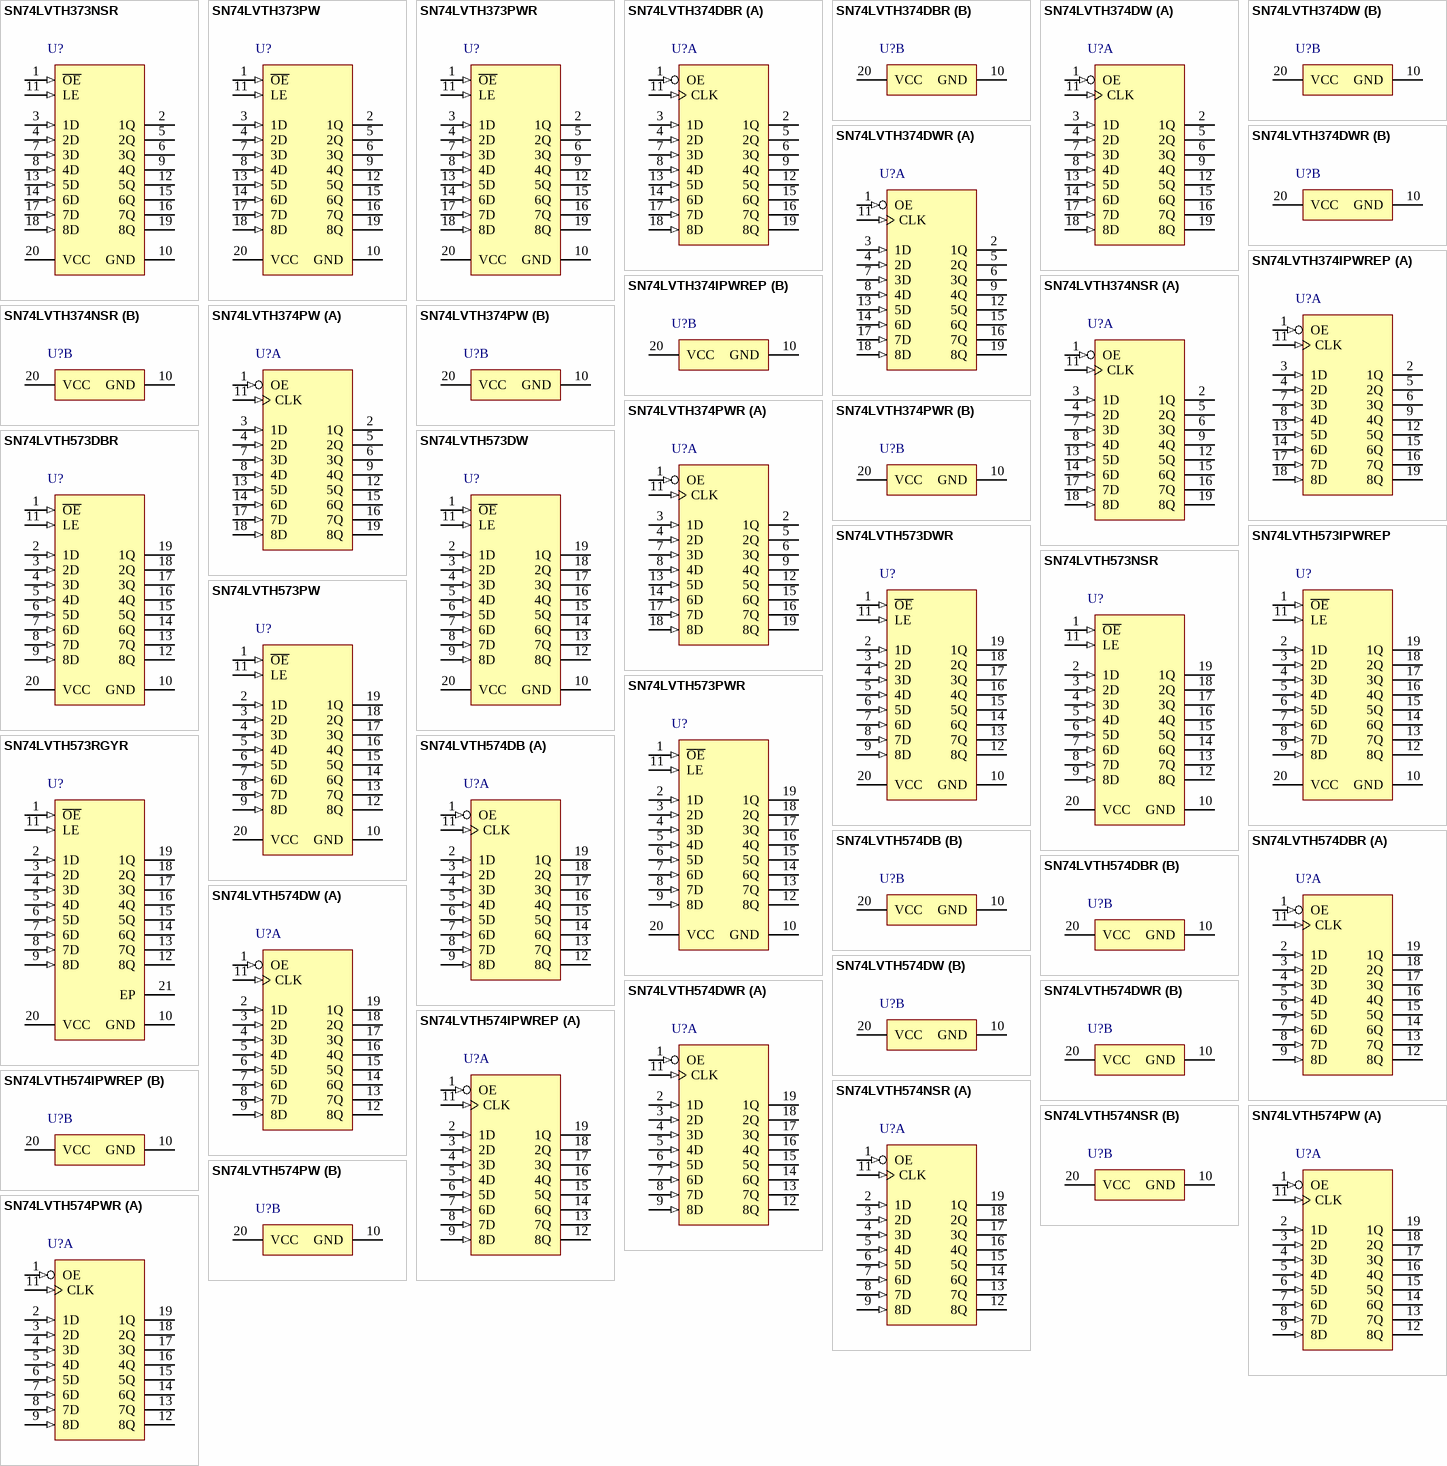
[diagram p111: symbols SN74LVTH373NSR to SN74LVTH574PWR]

## SN74LVTH373NSR
designator U?
3.3-V ABT Octal Transparent D-Type Latches With 3-State Outputs, NS0020A, LARGE T&R; Generic Part Number: SN74LVTH373; Manufacturer: Texas Instruments; PartNumber: SN74LVTH373NSR; VCC(Min)(V): 2.7; VCC(Max)(V): 3.6; Output Type: TTL; Logic: True; Static Current: 5; Bits(#): 8; F @ Nom Voltage(Max)(Mhz): 160; Rating: Catalog; Technology Family: LVT; Voltage(Nom)(V): 3.3; Schmitt Trigger: No; Output Drive (IOL/IOH)(Max)(mA): 64/-32; Output Logic: Non-inverted; 3-State Output: Yes; tpd @ Nom Voltage(Max)(ns): 3.9; DatasheetVersion: SCBS689H; PackageReference: NS0020A; Supplier 1: Digi-Key; Supplier Part Number 1: 296-29930-2-ND; Supplier 2: Digi-Key; Supplier Part Number 2: 296-29930-1-ND; Supplier 3: Digi-Key; Supplier Part Number 3: 296-29930-6-ND; Supplier 4: Mouser; Supplier Part Number 4: 595-SN74LVTH373NSR; ICC @ Nom Voltage(Max)(mA): 5; Input Type: TTL; Operating Temperature Range(C): -40 to 85; ComponentLink1Description: Manufacturer URL; ComponentLink1URL: http://www.ti.com/; ComponentLink2Description: Datasheet; ComponentLink2URL: http://www.ti.com/lit/ds/symlink/sn74lvth373.pdf; ComponentLink3Description: Package Specification; ComponentLink3URL: http://www.ti.com/lit/ml/msop002a/msop002a.pdf
footprint NS0020A_N (SOIC,20-Leads,Body 12.9x5.6mm,Pitch 1.27mm,IPC Medium Density)
footprint NS0020A_M (SOIC,20-Leads,Body 12.9x5.6mm,Pitch 1.27mm,IPC Low Density)
footprint NS0020A_L (SOIC,20-Leads,Body 12.9x5.6mm,Pitch 1.27mm,IPC High Density)
pins: 1 ~{OE} (in) "Output Enable", 2 1Q (hiz) "1Q Output", 3 1D (in) "1D Input", 4 2D (in) "2D Input", 5 2Q (hiz) "2Q Output", 6 3Q (hiz) "3Q Output", 7 3D (in) "3D Input", 8 4D (in) "4D Input", 9 4Q (hiz) "4Q Output", 10 GND (power) "Ground Pin", 11 LE (in) "Latch Enable", 12 5Q (hiz) "5Q Output", 13 5D (in) "5D Input", 14 6D (in) "6D Input", 15 6Q (hiz) "6Q Output", 16 7Q (hiz) "7Q Output", 17 7D (in) "7D Input", 18 8D (in) "8D Input", 19 8Q (hiz) "8Q Output", 20 VCC (power) "Power Pin"

## SN74LVTH373PW
designator U?
3.3-V ABT Octal Transparent D-Type Latches With 3-State Outputs, PW0020A, TUBE; Generic Part Number: SN74LVTH373; Manufacturer: Texas Instruments; PartNumber: SN74LVTH373PW; VCC(Min)(V): 2.7; VCC(Max)(V): 3.6; Output Type: TTL; Logic: True; Static Current: 5; Bits(#): 8; F @ Nom Voltage(Max)(Mhz): 160; Rating: Catalog; Technology Family: LVT; Voltage(Nom)(V): 3.3; Schmitt Trigger: No; Output Drive (IOL/IOH)(Max)(mA): 64/-32; Output Logic: Non-inverted; 3-State Output: Yes; tpd @ Nom Voltage(Max)(ns): 3.9; DatasheetVersion: SCBS689H; PackageReference: PW0020A; Supplier 1: Digi-Key; Supplier Part Number 1: 296-26644-5-ND; Supplier 2: Farnell; Supplier Part Number 2: 1741054; Supplier 3: Newark; Supplier Part Number 3: 50R6676; Supplier 4: Mouser; Supplier Part Number 4: 595-SN74LVTH373PW; ICC @ Nom Voltage(Max)(mA): 5; Input Type: TTL; Operating Temperature Range(C): -40 to 85; Code_JEDEC: MO-153; ComponentLink1Description: Manufacturer URL; ComponentLink1URL: http://www.ti.com/; ComponentLink2Description: Datasheet; ComponentLink2URL: http://www.ti.com/lit/ds/symlink/sn74lvth373.pdf; ComponentLink3Description: Package Specification; ComponentLink3URL: http://www.ti.com/lit/ml/mpds362/mpds362.pdf
footprint PW0020A_N (SOP, 20-Leads, Body 6.6x4.5mm, Pitch 0.65mm, IPC Medium Density)
footprint PW0020A_M (SOP, 20-Leads, Body 6.6x4.5mm, Pitch 0.65mm, IPC Low Density)
footprint PW0020A_L (SOP, 20-Leads, Body 6.6x4.5mm, Pitch 0.65mm, IPC High Density)
pins: 1 ~{OE} (in) "Output Enable", 2 1Q (hiz) "1Q Output", 3 1D (in) "1D Input", 4 2D (in) "2D Input", 5 2Q (hiz) "2Q Output", 6 3Q (hiz) "3Q Output", 7 3D (in) "3D Input", 8 4D (in) "4D Input", 9 4Q (hiz) "4Q Output", 10 GND (power) "Ground Pin", 11 LE (in) "Latch Enable", 12 5Q (hiz) "5Q Output", 13 5D (in) "5D Input", 14 6D (in) "6D Input", 15 6Q (hiz) "6Q Output", 16 7Q (hiz) "7Q Output", 17 7D (in) "7D Input", 18 8D (in) "8D Input", 19 8Q (hiz) "8Q Output", 20 VCC (power) "Power Pin"

## SN74LVTH373PWR
designator U?
3.3-V ABT Octal Transparent D-Type Latches With 3-State Outputs, PW0020A, LARGE T&R; Generic Part Number: SN74LVTH373; Manufacturer: Texas Instruments; PartNumber: SN74LVTH373PWR; VCC(Min)(V): 2.7; VCC(Max)(V): 3.6; Output Type: TTL; Logic: True; Static Current: 5; Bits(#): 8; F @ Nom Voltage(Max)(Mhz): 160; Rating: Catalog; Technology Family: LVT; Voltage(Nom)(V): 3.3; Schmitt Trigger: No; Output Drive (IOL/IOH)(Max)(mA): 64/-32; Output Logic: Non-inverted; 3-State Output: Yes; tpd @ Nom Voltage(Max)(ns): 3.9; DatasheetVersion: SCBS689H; PackageReference: PW0020A; Supplier 1: Digi-Key; Supplier Part Number 1: 296-8720-2-ND; Supplier 2: Digi-Key; Supplier Part Number 2: 296-8720-1-ND; Supplier 3: Digi-Key; Supplier Part Number 3: 296-8720-6-ND; Supplier 4: Newark; Supplier Part Number 4: 76C4497; Supplier 5: Mouser; Supplier Part Number 5: 595-SN74LVTH373PWR; ICC @ Nom Voltage(Max)(mA): 5; Input Type: TTL; Operating Temperature Range(C): -40 to 85; Code_JEDEC: MO-153; ComponentLink1Description: Manufacturer URL; ComponentLink1URL: http://www.ti.com/; ComponentLink2Description: Datasheet; ComponentLink2URL: http://www.ti.com/lit/ds/symlink/sn74lvth373.pdf; ComponentLink3Description: Package Specification; ComponentLink3URL: http://www.ti.com/lit/ml/mpds362/mpds362.pdf
footprint PW0020A_N (SOP, 20-Leads, Body 6.6x4.5mm, Pitch 0.65mm, IPC Medium Density)
footprint PW0020A_M (SOP, 20-Leads, Body 6.6x4.5mm, Pitch 0.65mm, IPC Low Density)
footprint PW0020A_L (SOP, 20-Leads, Body 6.6x4.5mm, Pitch 0.65mm, IPC High Density)
pins: 1 ~{OE} (in) "Output Enable", 2 1Q (hiz) "1Q Output", 3 1D (in) "1D Input", 4 2D (in) "2D Input", 5 2Q (hiz) "2Q Output", 6 3Q (hiz) "3Q Output", 7 3D (in) "3D Input", 8 4D (in) "4D Input", 9 4Q (hiz) "4Q Output", 10 GND (power) "Ground Pin", 11 LE (in) "Latch Enable", 12 5Q (hiz) "5Q Output", 13 5D (in) "5D Input", 14 6D (in) "6D Input", 15 6Q (hiz) "6Q Output", 16 7Q (hiz) "7Q Output", 17 7D (in) "7D Input", 18 8D (in) "8D Input", 19 8Q (hiz) "8Q Output", 20 VCC (power) "Power Pin"

## SN74LVTH374DBR
designator U?
3.3-V ABT Octal Edge-Triggered D-Type Flip-Flops With 3-State Outputs, DB0020A, LARGE T&R; Generic Part Number: SN74LVTH374; Manufacturer: Texas Instruments; PartNumber: SN74LVTH374DBR; VCC(Min)(V): 2.7; VCC(Max)(V): 3.6; Output Type: TTL; ICC @ Nom Voltage(Max)(mA): 5; Bits(#): 8; F @ Nom Voltage(Max)(Mhz): 160; Rating: Catalog; Technology Family: LVT; Voltage(Nom)(V): 3.3; Schmitt Trigger: No; Output Drive (IOL/IOH)(Max)(mA): 64/-32; Output Logic: Non-inverted; 3-State Output: Yes; tpd @ Nom Voltage(Max)(ns): 4.5; DatasheetVersion: SCBS683H; PackageReference: DB0020A; Supplier 1: Digi-Key; Supplier Part Number 1: 296-8721-2-ND; Supplier 2: Digi-Key; Supplier Part Number 2: 296-8721-1-ND; Supplier 3: Digi-Key; Supplier Part Number 3: 296-8721-6-ND; Supplier 4: Mouser; Supplier Part Number 4: 595-SN74LVTH374DBR; Input Type: TTL; Operating Temperature Range(C): -40 to 85; Code_JEDEC: MO-150; ComponentLink1Description: Manufacturer URL; ComponentLink1URL: http://www.ti.com/; ComponentLink2Description: Datasheet; ComponentLink2URL: http://www.ti.com/lit/ds/symlink/sn74lvth374.pdf; ComponentLink3Description: Package Specification; ComponentLink3URL: http://www.ti.com/lit/ml/mpds508/mpds508.pdf
footprint DB0020A_N (SOP, 20-Leads, Body 5.6x7.5mm, Pitch 0.65mm, IPC Medium Density)
footprint DB0020A_M (SOP, 20-Leads, Body 5.6x7.5mm, Pitch 0.65mm, IPC Low Density)
footprint DB0020A_L (SOP, 20-Leads, Body 5.6x7.5mm, Pitch 0.65mm, IPC High Density)
part A pins: 1 OE (in), 2 1Q (hiz), 3 1D (in), 4 2D (in), 5 2Q (hiz), 6 3Q (hiz), 7 3D (in), 8 4D (in), 9 4Q (hiz), 11 CLK (in), 12 5Q (hiz), 13 5D (in), 14 6D (in), 15 6Q (hiz), 16 7Q (hiz), 17 7D (in), 18 8D (in), 19 8Q (hiz)
part B pins: 10 GND (power), 20 VCC (power)

## SN74LVTH374DW
designator U?
3.3-V ABT Octal Edge-Triggered D-Type Flip-Flops With 3-State Outputs, DW0020A, TUBE; Generic Part Number: SN74LVTH374; Manufacturer: Texas Instruments; PartNumber: SN74LVTH374DW; VCC(Min)(V): 2.7; VCC(Max)(V): 3.6; Output Type: TTL; ICC @ Nom Voltage(Max)(mA): 5; Bits(#): 8; F @ Nom Voltage(Max)(Mhz): 160; Rating: Catalog; Technology Family: LVT; Voltage(Nom)(V): 3.3; Schmitt Trigger: No; Output Drive (IOL/IOH)(Max)(mA): 64/-32; Output Logic: Non-inverted; 3-State Output: Yes; tpd @ Nom Voltage(Max)(ns): 4.5; DatasheetVersion: SCBS683H; PackageReference: DW0020A; Supplier 1: Digi-Key; Supplier Part Number 1: 296-8722-5-ND; Supplier 2: Farnell; Supplier Part Number 2: 1739896; Supplier 3: Newark; Supplier Part Number 3: 96B8558; Supplier 4: Mouser; Supplier Part Number 4: 595-SN74LVTH374DW; Input Type: TTL; Operating Temperature Range(C): -40 to 85; Code_JEDEC: MS-013; ComponentLink1Description: Manufacturer URL; ComponentLink1URL: http://www.ti.com/; ComponentLink2Description: Datasheet; ComponentLink2URL: http://www.ti.com/lit/ds/symlink/sn74lvth374.pdf; ComponentLink3Description: Package Specification; ComponentLink3URL: http://www.ti.com/lit/ml/mpds173a/mpds173a.pdf
footprint DW0020A_N (SOIC, 20-Leads, Body 13x7.6mm, Pitch 1.27mm, IPC Medium Density)
footprint DW0020A_M (SOIC, 20-Leads, Body 13x7.6mm, Pitch 1.27mm, IPC Low Density)
footprint DW0020A_L (SOIC, 20-Leads, Body 13x7.6mm, Pitch 1.27mm, IPC High Density)
part A pins: 1 OE (in), 2 1Q (hiz), 3 1D (in), 4 2D (in), 5 2Q (hiz), 6 3Q (hiz), 7 3D (in), 8 4D (in), 9 4Q (hiz), 11 CLK (in), 12 5Q (hiz), 13 5D (in), 14 6D (in), 15 6Q (hiz), 16 7Q (hiz), 17 7D (in), 18 8D (in), 19 8Q (hiz)
part B pins: 10 GND (power), 20 VCC (power)

## SN74LVTH374DWR
designator U?
3.3-V ABT Octal Edge-Triggered D-Type Flip-Flops With 3-State Outputs, DW0020A, LARGE T&R; Generic Part Number: SN74LVTH374; Manufacturer: Texas Instruments; PartNumber: SN74LVTH374DWR; VCC(Min)(V): 2.7; VCC(Max)(V): 3.6; Output Type: TTL; ICC @ Nom Voltage(Max)(mA): 5; Bits(#): 8; F @ Nom Voltage(Max)(Mhz): 160; Rating: Catalog; Technology Family: LVT; Voltage(Nom)(V): 3.3; Schmitt Trigger: No; Output Drive (IOL/IOH)(Max)(mA): 64/-32; Output Logic: Non-inverted; 3-State Output: Yes; tpd @ Nom Voltage(Max)(ns): 4.5; DatasheetVersion: SCBS683H; PackageReference: DW0020A; Supplier 1: Digi-Key; Supplier Part Number 1: 296-8722-2-ND; Supplier 2: Digi-Key; Supplier Part Number 2: 296-8722-1-ND; Supplier 3: Digi-Key; Supplier Part Number 3: 296-8722-6-ND; Supplier 4: Newark; Supplier Part Number 4: 76C4499; Supplier 5: Mouser; Supplier Part Number 5: 595-SN74LVTH374DWR; Input Type: TTL; Operating Temperature Range(C): -40 to 85; Code_JEDEC: MS-013; ComponentLink1Description: Manufacturer URL; ComponentLink1URL: http://www.ti.com/; ComponentLink2Description: Datasheet; ComponentLink2URL: http://www.ti.com/lit/ds/symlink/sn74lvth374.pdf; ComponentLink3Description: Package Specification; ComponentLink3URL: http://www.ti.com/lit/ml/mpds173a/mpds173a.pdf
footprint DW0020A_N (SOIC, 20-Leads, Body 13x7.6mm, Pitch 1.27mm, IPC Medium Density)
footprint DW0020A_M (SOIC, 20-Leads, Body 13x7.6mm, Pitch 1.27mm, IPC Low Density)
footprint DW0020A_L (SOIC, 20-Leads, Body 13x7.6mm, Pitch 1.27mm, IPC High Density)
part A pins: 1 OE (in), 2 1Q (hiz), 3 1D (in), 4 2D (in), 5 2Q (hiz), 6 3Q (hiz), 7 3D (in), 8 4D (in), 9 4Q (hiz), 11 CLK (in), 12 5Q (hiz), 13 5D (in), 14 6D (in), 15 6Q (hiz), 16 7Q (hiz), 17 7D (in), 18 8D (in), 19 8Q (hiz)
part B pins: 10 GND (power), 20 VCC (power)

## SN74LVTH374IPWREP
designator U?
Enhanced Product 3.3-V Abt Octal Edge-Triggered D-Type Flip-Flops With 3-State Outputs, PW0020A, LARGE T&R; Generic Part Number: SN74LVTH374-EP; Manufacturer: Texas Instruments; PartNumber: SN74LVTH374IPWREP; VCC(Min)(V): 2.7; VCC(Max)(V): 3.6; Output Type: TTL; ICC @ Nom Voltage(Max)(mA): 5; Bits(#): 8; F @ Nom Voltage(Max)(Mhz): 160; Rating: HiRel Enhanced Product; Technology Family: LVT; Voltage(Nom)(V): 3.3; Schmitt Trigger: No; Output Drive (IOL/IOH)(Max)(mA): 64/-32; Output Logic: Non-inverted; 3-State Output: Yes; tpd @ Nom Voltage(Max)(ns): 4.5; DatasheetVersion: SCBS771; PackageReference: PW0020A; Supplier 1: Digi-Key; Supplier Part Number 1: 296-22395-2-ND; Supplier 2: Digi-Key; Supplier Part Number 2: 296-22395-1-ND; Supplier 3: Digi-Key; Supplier Part Number 3: 296-22395-6-ND; Supplier 4: Mouser; Supplier Part Number 4: 595-N74LVTH374IPWREP; Input Type: TTL; Operating Temperature Range(C): -40 to 85; Code_JEDEC: MO-153; ComponentLink1Description: Manufacturer URL; ComponentLink1URL: http://www.ti.com/; ComponentLink2Description: Datasheet; ComponentLink2URL: http://www.ti.com/lit/ds/symlink/sn74lvth374-ep.pdf; ComponentLink3Description: Package Specification; ComponentLink3URL: http://www.ti.com/lit/ml/mpds362/mpds362.pdf
footprint PW0020A_N (SOP, 20-Leads, Body 6.6x4.5mm, Pitch 0.65mm, IPC Medium Density)
footprint PW0020A_M (SOP, 20-Leads, Body 6.6x4.5mm, Pitch 0.65mm, IPC Low Density)
footprint PW0020A_L (SOP, 20-Leads, Body 6.6x4.5mm, Pitch 0.65mm, IPC High Density)
part A pins: 1 OE (in), 2 1Q (hiz), 3 1D (in), 4 2D (in), 5 2Q (hiz), 6 3Q (hiz), 7 3D (in), 8 4D (in), 9 4Q (hiz), 11 CLK (in), 12 5Q (hiz), 13 5D (in), 14 6D (in), 15 6Q (hiz), 16 7Q (hiz), 17 7D (in), 18 8D (in), 19 8Q (hiz)
part B pins: 10 GND (power), 20 VCC (power)

## SN74LVTH374NSR
designator U?
3.3-V ABT Octal Edge-Triggered D-Type Flip-Flops With 3-State Outputs, NS0020A, LARGE T&R; Generic Part Number: SN74LVTH374; Manufacturer: Texas Instruments; PartNumber: SN74LVTH374NSR; VCC(Min)(V): 2.7; VCC(Max)(V): 3.6; Output Type: TTL; ICC @ Nom Voltage(Max)(mA): 5; Bits(#): 8; F @ Nom Voltage(Max)(Mhz): 160; Rating: Catalog; Technology Family: LVT; Voltage(Nom)(V): 3.3; Schmitt Trigger: No; Output Drive (IOL/IOH)(Max)(mA): 64/-32; Output Logic: Non-inverted; 3-State Output: Yes; tpd @ Nom Voltage(Max)(ns): 4.5; DatasheetVersion: SCBS683H; PackageReference: NS0020A; Supplier 1: Digi-Key; Supplier Part Number 1: SN74LVTH374NSR-ND; Supplier 2: Mouser; Supplier Part Number 2: 595-SN74LVTH374NSR; Input Type: TTL; Operating Temperature Range(C): -40 to 85; ComponentLink1Description: Manufacturer URL; ComponentLink1URL: http://www.ti.com/; ComponentLink2Description: Datasheet; ComponentLink2URL: http://www.ti.com/lit/ds/symlink/sn74lvth374.pdf; ComponentLink3Description: Package Specification; ComponentLink3URL: http://www.ti.com/lit/ml/msop002a/msop002a.pdf
footprint NS0020A_N (SOIC,20-Leads,Body 12.9x5.6mm,Pitch 1.27mm,IPC Medium Density)
footprint NS0020A_M (SOIC,20-Leads,Body 12.9x5.6mm,Pitch 1.27mm,IPC Low Density)
footprint NS0020A_L (SOIC,20-Leads,Body 12.9x5.6mm,Pitch 1.27mm,IPC High Density)
part A pins: 1 OE (in), 2 1Q (hiz), 3 1D (in), 4 2D (in), 5 2Q (hiz), 6 3Q (hiz), 7 3D (in), 8 4D (in), 9 4Q (hiz), 11 CLK (in), 12 5Q (hiz), 13 5D (in), 14 6D (in), 15 6Q (hiz), 16 7Q (hiz), 17 7D (in), 18 8D (in), 19 8Q (hiz)
part B pins: 10 GND (power), 20 VCC (power)

## SN74LVTH374PW
designator U?
3.3-V ABT Octal Edge-Triggered D-Type Flip-Flops With 3-State Outputs, PW0020A, TUBE; Generic Part Number: SN74LVTH374; Manufacturer: Texas Instruments; PartNumber: SN74LVTH374PW; VCC(Min)(V): 2.7; VCC(Max)(V): 3.6; Output Type: TTL; ICC @ Nom Voltage(Max)(mA): 5; Bits(#): 8; F @ Nom Voltage(Max)(Mhz): 160; Rating: Catalog; Technology Family: LVT; Voltage(Nom)(V): 3.3; Schmitt Trigger: No; Output Drive (IOL/IOH)(Max)(mA): 64/-32; Output Logic: Non-inverted; 3-State Output: Yes; tpd @ Nom Voltage(Max)(ns): 4.5; DatasheetVersion: SCBS683H; PackageReference: PW0020A; Supplier 1: Digi-Key; Supplier Part Number 1: SN74LVTH374PW-ND; Supplier 2: Mouser; Supplier Part Number 2: 595-SN74LVTH374PW; Input Type: TTL; Operating Temperature Range(C): -40 to 85; Code_JEDEC: MO-153; ComponentLink1Description: Manufacturer URL; ComponentLink1URL: http://www.ti.com/; ComponentLink2Description: Datasheet; ComponentLink2URL: http://www.ti.com/lit/ds/symlink/sn74lvth374.pdf; ComponentLink3Description: Package Specification; ComponentLink3URL: http://www.ti.com/lit/ml/mpds362/mpds362.pdf
footprint PW0020A_N (SOP, 20-Leads, Body 6.6x4.5mm, Pitch 0.65mm, IPC Medium Density)
footprint PW0020A_M (SOP, 20-Leads, Body 6.6x4.5mm, Pitch 0.65mm, IPC Low Density)
footprint PW0020A_L (SOP, 20-Leads, Body 6.6x4.5mm, Pitch 0.65mm, IPC High Density)
part A pins: 1 OE (in), 2 1Q (hiz), 3 1D (in), 4 2D (in), 5 2Q (hiz), 6 3Q (hiz), 7 3D (in), 8 4D (in), 9 4Q (hiz), 11 CLK (in), 12 5Q (hiz), 13 5D (in), 14 6D (in), 15 6Q (hiz), 16 7Q (hiz), 17 7D (in), 18 8D (in), 19 8Q (hiz)
part B pins: 10 GND (power), 20 VCC (power)

## SN74LVTH374PWR
designator U?
3.3-V ABT Octal Edge-Triggered D-Type Flip-Flops With 3-State Outputs, PW0020A, LARGE T&R; Generic Part Number: SN74LVTH374; Manufacturer: Texas Instruments; PartNumber: SN74LVTH374PWR; VCC(Min)(V): 2.7; VCC(Max)(V): 3.6; Output Type: TTL; ICC @ Nom Voltage(Max)(mA): 5; Bits(#): 8; F @ Nom Voltage(Max)(Mhz): 160; Rating: Catalog; Technology Family: LVT; Voltage(Nom)(V): 3.3; Schmitt Trigger: No; Output Drive (IOL/IOH)(Max)(mA): 64/-32; Output Logic: Non-inverted; 3-State Output: Yes; tpd @ Nom Voltage(Max)(ns): 4.5; DatasheetVersion: SCBS683H; PackageReference: PW0020A; Supplier 1: Digi-Key; Supplier Part Number 1: 296-8723-2-ND; Supplier 2: Digi-Key; Supplier Part Number 2: 296-8723-1-ND; Supplier 3: Digi-Key; Supplier Part Number 3: 296-8723-6-ND; Supplier 4: Mouser; Supplier Part Number 4: 595-SN74LVTH374PWR; Input Type: TTL; Operating Temperature Range(C): -40 to 85; Code_JEDEC: MO-153; ComponentLink1Description: Manufacturer URL; ComponentLink1URL: http://www.ti.com/; ComponentLink2Description: Datasheet; ComponentLink2URL: http://www.ti.com/lit/ds/symlink/sn74lvth374.pdf; ComponentLink3Description: Package Specification; ComponentLink3URL: http://www.ti.com/lit/ml/mpds362/mpds362.pdf
footprint PW0020A_N (SOP, 20-Leads, Body 6.6x4.5mm, Pitch 0.65mm, IPC Medium Density)
footprint PW0020A_M (SOP, 20-Leads, Body 6.6x4.5mm, Pitch 0.65mm, IPC Low Density)
footprint PW0020A_L (SOP, 20-Leads, Body 6.6x4.5mm, Pitch 0.65mm, IPC High Density)
part A pins: 1 OE (in), 2 1Q (hiz), 3 1D (in), 4 2D (in), 5 2Q (hiz), 6 3Q (hiz), 7 3D (in), 8 4D (in), 9 4Q (hiz), 11 CLK (in), 12 5Q (hiz), 13 5D (in), 14 6D (in), 15 6Q (hiz), 16 7Q (hiz), 17 7D (in), 18 8D (in), 19 8Q (hiz)
part B pins: 10 GND (power), 20 VCC (power)

## SN74LVTH573DBR
designator U?
3.3-V ABT Octal Transparent D-Type Latches With 3-State Outputs, DB0020A, LARGE T&R; Generic Part Number: SN74LVTH573; Manufacturer: Texas Instruments; PartNumber: SN74LVTH573DBR; VCC(Min)(V): 2.7; VCC(Max)(V): 3.6; Output Type: TTL; Logic: True; ICC @ Nom Voltage(Max)(mA): 5; Bits(#): 8; F @ Nom Voltage(Max)(Mhz): 160; Rating: Catalog; Technology Family: LVT; Voltage(Nom)(V): 3.3; Schmitt Trigger: No; Output Drive (IOL/IOH)(Max)(mA): 64/-32; Output Logic: Non-inverted; 3-State Output: Yes; tpd @ Nom Voltage(Max)(ns): 3.9; DatasheetVersion: SCBS687H; PackageReference: DB0020A; Supplier 1: Digi-Key; Supplier Part Number 1: 296-8733-2-ND; Supplier 2: Digi-Key; Supplier Part Number 2: 296-8733-1-ND; Supplier 3: Digi-Key; Supplier Part Number 3: 296-8733-6-ND; Supplier 4: Newark; Supplier Part Number 4: 76C4517; Supplier 5: Mouser; Supplier Part Number 5: 595-SN74LVTH573DBR; Input Type: TTL; Operating Temperature Range(C): -40 to 85; Code_JEDEC: MO-150; ComponentLink1Description: Manufacturer URL; ComponentLink1URL: http://www.ti.com/; ComponentLink2Description: Datasheet; ComponentLink2URL: http://www.ti.com/lit/ds/symlink/sn74lvth573.pdf; ComponentLink3Description: Package Specification; ComponentLink3URL: http://www.ti.com/lit/ml/mpds508/mpds508.pdf
footprint DB0020A_N (SOP, 20-Leads, Body 5.6x7.5mm, Pitch 0.65mm, IPC Medium Density)
footprint DB0020A_M (SOP, 20-Leads, Body 5.6x7.5mm, Pitch 0.65mm, IPC Low Density)
footprint DB0020A_L (SOP, 20-Leads, Body 5.6x7.5mm, Pitch 0.65mm, IPC High Density)
pins: 1 ~{OE} (in), 2 1D (in), 3 2D (in), 4 3D (in), 5 4D (in), 6 5D (in), 7 6D (in), 8 7D (in), 9 8D (in), 10 GND (power), 11 LE (in), 12 8Q (hiz), 13 7Q (hiz), 14 6Q (hiz), 15 5Q (hiz), 16 4Q (hiz), 17 3Q (hiz), 18 2Q (hiz), 19 1Q (hiz), 20 VCC (power)